# Altium footprint library SparkFun-Switches.PCBLIB: 50 footprints (part 5 of 5)
Each footprint in its own frame and in the unit in brackets; x right, y up, seen from the top. Pads: shape width x height; smd on the part's side, far side on the other; paste and mask are expansions set on the pad; w line width, h text height; cw(c..) or ccw(c..) is an arc to the next point about the centre after c.
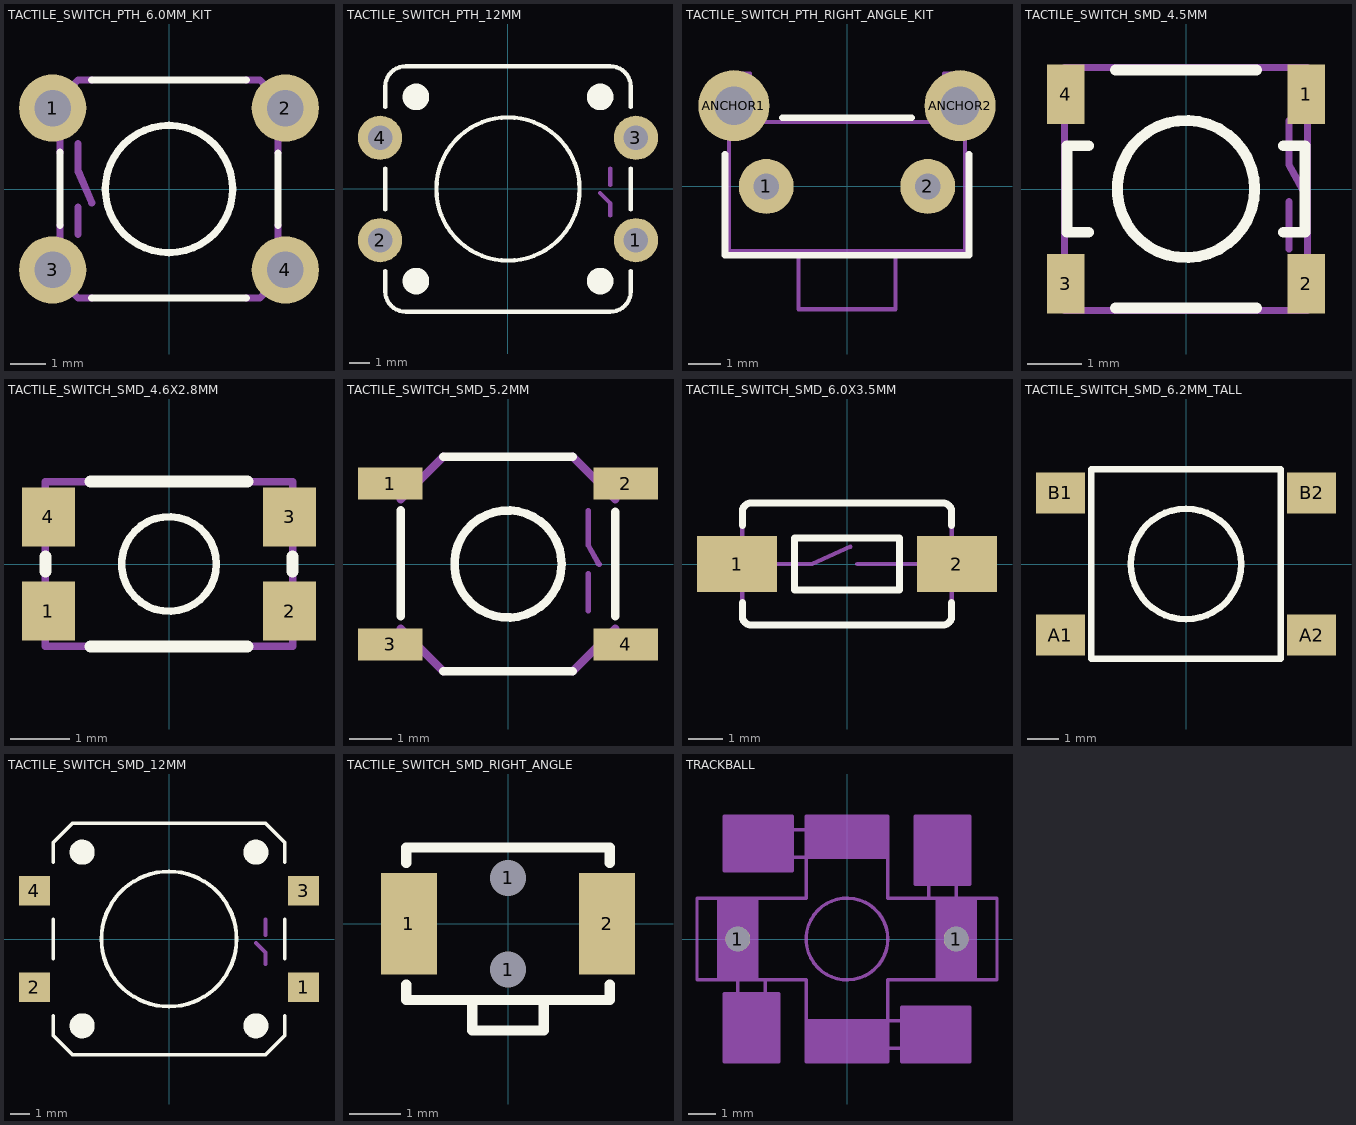
[diagram p4: the footprints below, top view; thin cyan lines are the x and y axes]

## TACTILE_SWITCH_PTH_6.0MM_KIT [mil]
pads (4):
  round 74 hole 40: 1(-128,89) 2(128,89) 3(-128,-89) 4(128,-89)
Top Overlay:
  circle w8: c0,0 r70
  lines w8: -120,-40 -120,40.47 ; -85,-120 85,-120 ; -85,120 85,120 ; 120,-40 120,39.29
Top Solder:
  region: 0,0 10,0 10,10 0,10
  region: 0,0 10,0 10,10 0,10
  region: 0,0 10,0 10,10 0,10
  region: 0,0 10,0 10,10 0,10
Bottom Solder:
  region: 0,0 10,0 10,10 0,10
  region: 0,0 10,0 10,10 0,10
  region: 0,0 10,0 10,10 0,10
  region: 0,0 10,0 10,10 0,10
Mechanical 16:
  lines w8: -120,-40 -120,-100 -100,-120 -85,-120 ; -120,40 -120,100 -100,120 -85,120 ; -100,-50 -100,-20 ; -100,50 -100,20 -85,-15 ; 85,-120 100,-120 120,-100 120,-40 ; 85,120 100,120 120,100 120,40

## TACTILE_SWITCH_PTH_12MM [mil]
pads (4):
  round 85 hole 47.24: 1(246.06,-98.43) 2(-246.06,-98.43) 3(246.06,98.43) 4(-246.06,98.43)
Top Overlay:
  circle w8: c0,0 r137.8
  circle w27.56: c-177.17,177.17 r11.81
  circle w27.56: c177.17,177.17 r11.81
  circle w27.56: c177.17,-177.17 r11.81
  circle w27.56: c-177.17,-177.17 r11.81
  lines w8: -236.22,-157.48 -236.22,-196.85 ccw(c-196.85,-196.85) -196.85,-236.22 196.85,-236.22 ccw(c196.85,-196.85) 236.22,-196.85 236.22,-157.48 ; -236.22,-39.37 -236.22,39.37 ; -236.22,157.48 -236.22,196.85 cw(c-196.85,196.85) -196.85,236.22 196.85,236.22 cw(c196.85,196.85) 236.22,196.85 236.22,157.48 ; 236.22,-39.37 236.22,39.37
Mechanical 16:
  lines w8: 177.17,-7.87 196.85,-27.56 196.85,-51.18 ; 196.85,7.87 196.85,39.37

## TACTILE_SWITCH_PTH_RIGHT_ANGLE_KIT [mil]
pads (4):
  round 66.93 hole 31.5: 1(-98.43,0) 2(98.43,0)
  round 86.61 hole 47.24: ANCHOR1(-137.8,98.43) ANCHOR2(137.8,98.43)
Top Overlay:
  lines w8: -148.7,39.37 -148.7,-83.74 148.7,-83.74 148.7,39.37 ; -78.74,83.74 78.74,83.74
Top Solder:
  circle w0: c98.43,0 r17.5
  circle w0: c-98.43,0 r17.5
  circle w0: c-137.8,98.43 r25
  circle w0: c137.8,98.43 r25
Bottom Solder:
  circle w0: c-137.8,98.43 r45
  circle w0: c98.43,0 r35
  circle w0: c-98.43,0 r35
  circle w0: c137.8,98.43 r45
Mechanical 16:
  lines w5: -59.06,-78.74 -143.7,-78.74 -143.7,137.8 -118.11,137.8 -118.11,78.74 118.11,78.74 118.11,137.8 143.7,137.8 143.7,-78.74 59.06,-78.74 ; -59.06,-78.74 59.06,-78.74 ; -59.06,-78.74 -59.06,-149.61 59.06,-149.61 59.06,-78.74

## TACTILE_SWITCH_SMD_4.5MM [mil]
pads (4):
  rect 27.56x43.31 smd: 1(87.6,68.9) 2(87.6,-68.9) 3(-87.6,-68.9) 4(-87.6,68.9)
Top Overlay:
  circle w8: c0,0 r50
  lines w8: -70.87,-31.5 -86.61,-31.5 -86.61,31.5 -70.87,31.5 ; -51.18,-86.61 51.18,-86.61 ; -51.18,86.61 51.18,86.61 ; 70.87,-31.5 86.61,-31.5 86.61,31.5 70.87,31.5
Mechanical 16:
  lines w5: 75,-43.9 75,-9.06 ; 75,50 75,17.52 85.04,-0.39 ; -88.58,-88.58 88.58,-88.58 88.58,88.58 -88.58,88.58 -88.58,-88.58

## TACTILE_SWITCH_SMD_4.6X2.8MM [mil]
pads (4):
  rect 35.43x39.37 smd: 1(-80.71,-31.5) 2(80.71,-31.5) 3(80.71,31.5) 4(-80.71,31.5)
Top Overlay:
  circle w5: c0,0 r31.69
  lines w8: -82.68,-5.12 -82.68,5.12 ; -52.68,-55.12 52.68,-55.12 ; -52.68,55.12 52.68,55.12 ; 82.68,-5.12 82.68,5.12
Mechanical 16:
  rectangle: -90.55,19.69 -82.68,43.31
  rectangle: -90.55,-43.31 -82.68,-19.69
  region: 90.55,-19.69 82.68,-19.69 82.68,-43.31 90.55,-43.31
  region: 90.55,43.31 82.68,43.31 82.68,19.69 90.55,19.69
  lines w5: -82.68,-55.12 -82.68,55.12 82.68,55.12 82.68,-55.12 -82.68,-55.12

## TACTILE_SWITCH_SMD_5.2MM [mil]
pads (4):
  rect 60x30 smd: 1(-110,75) 2(110,75) 3(-110,-75) 4(110,-75)
Top Overlay:
  circle w8: c0,0 r50
  lines w8: -100,-48.82 -100,50 ; -60.63,-100 60.63,-100 ; -60.63,100 60.63,100 ; 100,-48.82 100,48.82
Mechanical 16:
  lines w5: 75,-43.9 75,-9.06 ; 75,50 75,17.52 85.04,-0.39
  lines w8: -100,-60.63 -60.63,-100 ; -100,60.63 -60.63,100 ; 60.63,-100 100,-60.63 ; 60.63,100 100,60.63

## TACTILE_SWITCH_SMD_6.0X3.5MM [mil]
pads (2):
  rect 90.55x62.99 smd: 1(-124.02,0) 2(124.02,0)
Top Overlay:
  lines w8: -118.11,-43.31 -118.11,-59.06 ccw(c-108.27,-59.06) -108.27,-68.9 108.27,-68.9 ccw(c108.27,-59.06) 118.11,-59.06 118.11,-43.31 ; -118.11,43.31 -118.11,59.06 cw(c-108.27,59.06) -108.27,68.9 108.27,68.9 cw(c108.27,59.06) 118.11,59.06 118.11,43.31 ; -59.06,-29.53 59.06,-29.53 59.06,29.53 -59.06,29.53 -59.06,-29.53
Mechanical 16:
  lines w5: -118.11,-43.31 -118.11,43.31 ; -78.74,0 -39.37,0 3.94,19.69 ; 11.81,0 78.74,0 ; 118.11,-43.31 118.11,43.31

## TACTILE_SWITCH_SMD_6.2MM_TALL [mil]
pads (4):
  rect 61.02x51.18 smd: A1(-156.5,-88.58) A2(156.5,-88.58) B1(-156.5,88.58) B2(156.5,88.58)
Top Overlay:
  circle w8: c0,0 r68.9
  lines w8: -118.11,-118.11 118.11,-118.11 118.11,118.11 -118.11,118.11 -118.11,-118.11

## TACTILE_SWITCH_SMD_12MM [mil]
pads (4):
  rect 62.99x61.02 smd: 1(274.61,-98.43) 2(-274.61,-98.43) 3(274.61,98.43) 4(-274.61,98.43)
Top Overlay:
  circle w8: c0,0 r137.8
  circle w27.56: c-177.17,177.17 r11.81
  circle w27.56: c177.17,177.17 r11.81
  circle w27.56: c177.17,-177.17 r11.81
  circle w27.56: c-177.17,-177.17 r11.81
  lines w8: -236.22,-157.48 -236.22,-196.85 -196.85,-236.22 196.85,-236.22 236.22,-196.85 236.22,-157.48 ; -236.22,-39.37 -236.22,39.37 ; -236.22,157.48 -236.22,196.85 -196.85,236.22 196.85,236.22 236.22,196.85 236.22,157.48 ; 236.22,-39.37 236.22,39.37
Mechanical 16:
  lines w8: 177.17,-7.87 196.85,-27.56 196.85,-51.18 ; 196.85,7.87 196.85,39.37

## TACTILE_SWITCH_SMD_RIGHT_ANGLE [mm]
pads (4):
  rect 1.1x2 smd: 1(-1.95,0) 2(1.95,0)
  round 0.7 hole 0.7: 1(0,-0.9) 1(0,0.9)
Top Overlay:
  lines w0.203: -2,-1.2 -2,-1.5 -0.7,-1.5 ; -2,1.2 -2,1.5 2,1.5 2,1.2 ; 2,-1.2 2,-1.5 0.7,-1.5 ; -0.7,-1.5 0.7,-1.5 ; -0.7,-1.5 -0.7,-2.1 0.7,-2.1 0.7,-1.5

## TRACKBALL [mm]
pads (2):
  round 0.9 hole 0.9: 1(-4,0) 1(4,0)
Mechanical 12:
  lines w0.127: -4.7,-1.5 -4.7,1.5 -3.3,1.5 -3.3,-1.5 -4.7,-1.5 ; -4.5,-4.5 -2.5,-4.5 -2.5,-2 -4.5,-2 -4.5,-4.5 ; -4.5,2.5 -2,2.5 -2,4.5 -4.5,4.5 -4.5,2.5 ; -1.5,-4.4 1.5,-4.4 1.5,-3 -1.5,-3 -1.5,-4.4 ; -1.5,3 1.5,3 1.5,4.4 -1.5,4.4 -1.5,3 ; 2,-4.5 2,-2.5 4.5,-2.5 4.5,-4.5 2,-4.5 ; 2.5,2 4.5,2 4.5,4.5 2.5,4.5 2.5,2 ; 3.3,-1.5 4.7,-1.5 4.7,1.5 3.3,1.5 3.3,-1.5
Mechanical 16:
  circle w0.127: c0,0 r1.5
  lines w0.127: -4,-2 -4,-1.5 ; -3,-2 -3,-1.5 ; -2,3 -1.5,3 ; -2,4 -1.5,4 ; 2,-4 1.5,-4 ; 2,-3 1.5,-3 ; 3,2 3,1.5 ; 4,2 4,1.5 ; -4,-1.5 -5.5,-1.5 -5.5,1.5 -1.5,1.5 -1.5,3 ; -4,-1.5 -3,-1.5 ; -3,-1.5 -1.5,-1.5 -1.5,-4.5 1.5,-4.5 1.5,-4 ; -1.5,3 -1.5,4 ; -1.5,4 -1.5,4.5 1.5,4.5 1.5,1.5 3,1.5 ; 1.5,-4 1.5,-3 ; 1.5,-3 1.5,-1.5 5.5,-1.5 5.5,1.5 4,1.5 ; 3,1.5 4,1.5
Mechanical 27:
  rectangle: -4.7,-1.5 -3.3,1.5
  rectangle: -1.5,3 1.5,4.4
  rectangle: 3.3,-1.5 4.7,1.5
  rectangle: -1.5,-4.4 1.5,-3
Mech48:
  rectangle: 2,-4.5 4.5,-2.5
  rectangle: -4.5,-4.5 -2.5,-2
  rectangle: -4.5,2.5 -2,4.5
  rectangle: 2.5,2 4.5,4.5